# Altium footprint library box1.PcbLib: 12 footprints
Each footprint in its own frame and in the unit in brackets; x right, y up, seen from the top. Pads: shape width x height; smd on the part's side, far side on the other; paste and mask are expansions set on the pad; w line width, h text height; cw(c..) or ccw(c..) is an arc to the next point about the centre after c.
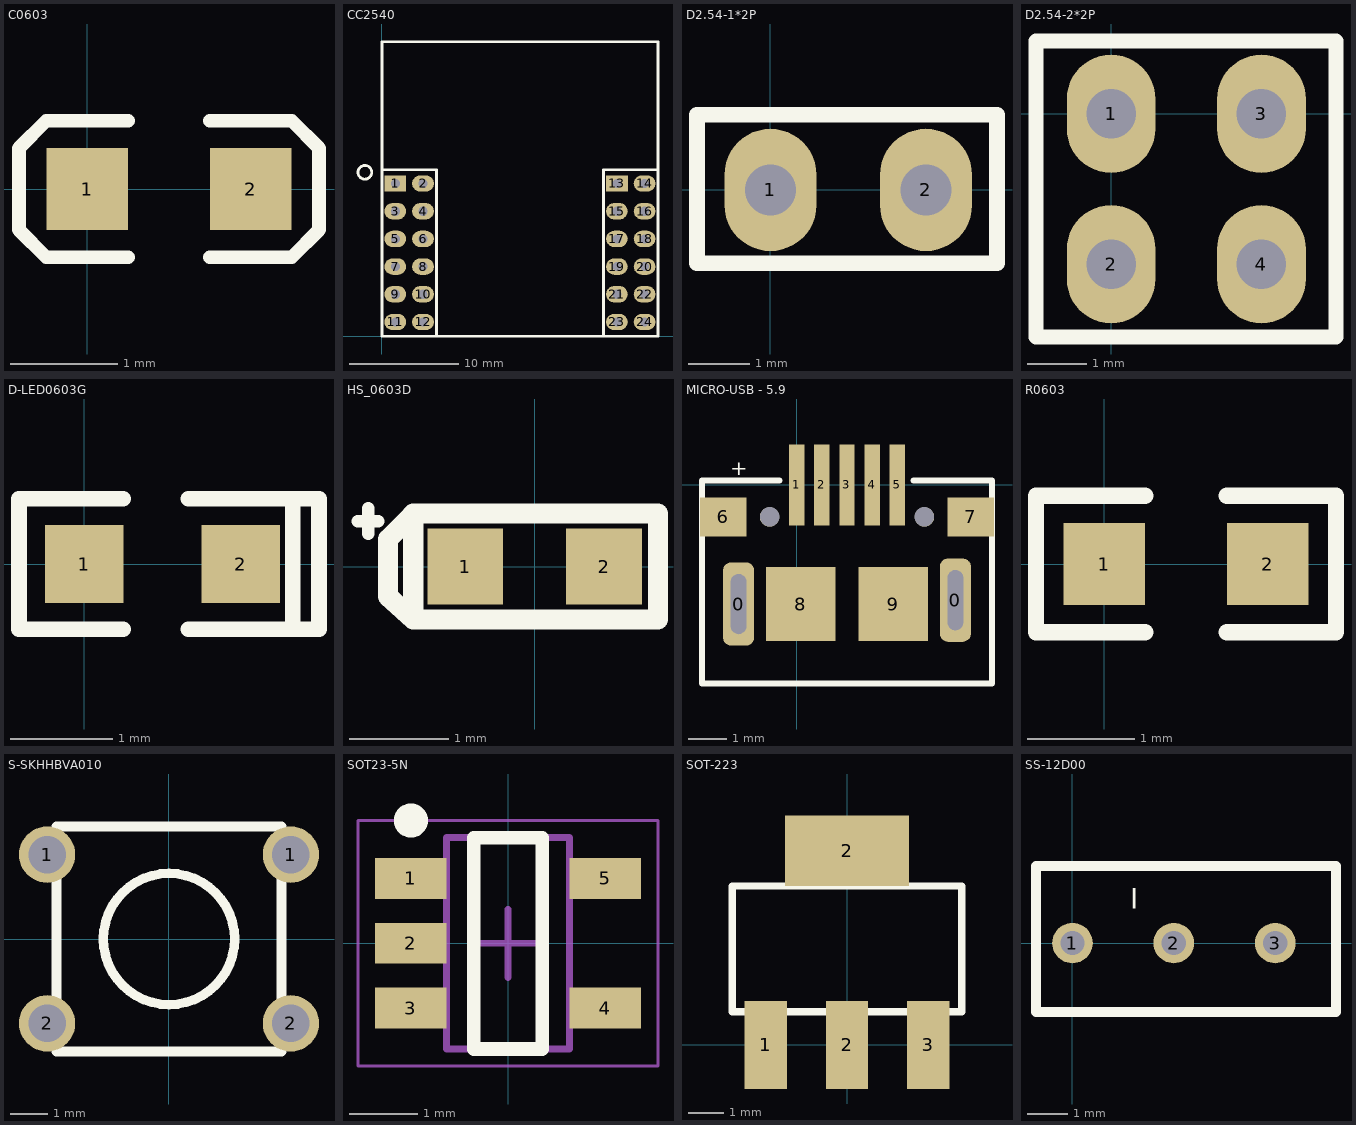
[diagram p0: the footprints below, top view; thin cyan lines are the x and y axes]

## C0603 [mil]
height 12
pads (2):
  rect 30x30 smd: 1(0,0) 2(60,0)
Top Overlay:
  lines w5: 15,-25 -15,-25 -25,-15 -25,15 -15,25 15,25 ; 45,-25 75,-25 85,-15 85,15 75,25 45,25
3D body "C0603.STEP": height 11.89, standoff 0, extent -1.5,-15.5 61.5,16

## CC2540 [mm]
pads (24):
  rect 2x1.5 hole 0.838: 1(1.23,14) 13(21.55,14)
  oval 2x1.5 hole 0.838: 2(3.77,14) 3(1.23,11.46) 4(3.77,11.46) 5(1.23,8.92) 6(3.77,8.92) 7(1.23,6.38) 8(3.77,6.38) 9(1.23,3.84) 10(3.77,3.84) 11(1.23,1.3) 12(3.77,1.3) 14(24.09,14) 15(21.55,11.46) 16(24.09,11.46) 17(21.55,8.92) 18(24.09,8.92) 19(21.55,6.38) 20(24.09,6.38) 21(21.55,3.84) 22(24.09,3.84) 23(21.55,1.3) 24(24.09,1.3)
Top Overlay:
  lines w0.254: -0.939,14.978 cw(c-1.565,15.025) -0.937,15.047 ; 25.32,26.986 25.32,0 ; 25.32,26.99 0,26.99 0,0 ; 0,0 0,15.27 5,15.27 5,0 ; 0,0 5,0 ; 5,0 20.32,0 ; 20.32,0 25.32,0 ; 20.32,0 20.32,15.27 25.32,15.27 25.32,0
3D body: height 2.54, standoff 0, extent 0,0 5.08,15.27
3D body: height 10, standoff -4, extent 3.371,5.981 4.169,6.778
3D body: height 10, standoff -4, extent 3.371,8.521 4.169,9.318
3D body: height 10, standoff -4, extent 3.371,11.061 4.169,11.858
3D body: height 10, standoff -4, extent 3.371,13.601 4.169,14.398
3D body: height 10, standoff -4, extent 0.831,5.981 1.629,6.778
3D body: height 10, standoff -4, extent 0.831,8.521 1.629,9.318
3D body: height 10, standoff -4, extent 0.831,11.061 1.629,11.858
3D body: height 10, standoff -4, extent 0.831,13.601 1.629,14.398
3D body: height 10, standoff -4, extent 3.371,3.441 4.169,4.238
3D body: height 10, standoff -4, extent 0.831,3.441 1.629,4.238
3D body: height 10, standoff -4, extent 0.831,0.841 1.629,1.638
3D body: height 10, standoff -4, extent 3.371,0.841 4.169,1.638
3D body: height 10, standoff -4, extent 23.691,0.841 24.489,1.638
3D body: height 10, standoff -4, extent 21.151,0.841 21.949,1.638
3D body: height 10, standoff -4, extent 21.151,3.441 21.949,4.238
3D body: height 10, standoff -4, extent 23.691,3.441 24.489,4.238
3D body: height 10, standoff -4, extent 21.151,13.601 21.949,14.398
3D body: height 10, standoff -4, extent 21.151,11.061 21.949,11.858
3D body: height 10, standoff -4, extent 21.151,8.521 21.949,9.318
3D body: height 10, standoff -4, extent 21.151,5.981 21.949,6.778
3D body: height 10, standoff -4, extent 23.691,13.601 24.489,14.398
3D body: height 10, standoff -4, extent 23.691,11.061 24.489,11.858
3D body: height 10, standoff -4, extent 23.691,8.521 24.489,9.318
3D body: height 10, standoff -4, extent 23.691,5.981 24.489,6.778
3D body: height 2.54, standoff 0, extent 20.32,0 25.4,15.27

## D2.54-1*2P [mm]
pads (2):
  oval 1.5x2 hole 0.838: 1(0,0) 2(2.54,0)
Top Overlay:
  lines w0.254: -1.2,-1.2 3.7,-1.2 3.7,-0.742 3.7,0.573 3.7,1.23 -1.2,1.23 -1.2,-1.2
3D body: height 10, standoff -4, extent -0.398,-0.399 0.399,0.399
3D body: height 10, standoff -4, extent 2.142,-0.399 2.939,0.399
3D body: height 2.54, standoff 0, extent -1.1,-1.3 3.6,1.24

## D2.54-2*2P [mm] "DUAL_ROW_Pin_R2.54-5P"
pads (4):
  oval 1.5x2 hole 0.838: 1(0,0) 2(0,-2.54) 3(2.54,0) 4(2.54,-2.54)
Top Overlay:
  lines w0.254: -1.27,-3.77 3.8,-3.77 3.8,1.23 -1.27,1.23 -1.27,-3.77
3D body: height 10, standoff -4, extent -0.398,-0.399 0.399,0.399
3D body: height 10, standoff -4, extent 2.142,-0.399 2.939,0.399
3D body: height 10, standoff -4, extent -0.398,-2.939 0.399,-2.141
3D body: height 10, standoff -4, extent 2.142,-2.939 2.939,-2.141
3D body: height 2.54, standoff 0, extent -1.27,-3.817 3.8,1.263

## D-LED0603G [mil]
height 39.37
pads (2):
  rect 30x30 smd: 1(0,0) 2(60,0)
Top Overlay:
  lines w6: 15,-25 -25,-25 -25,25 15,25 ; 40,-25 90,-25 90,25 40,25 ; 80,-25 80,25
3D body "LED_0603_GREEN.STEP": height 23.62, standoff 0, extent -1.89,-16.5 61.89,15

## HS_0603D [mil]
height 100
pads (2):
  rect 30x30 smd: 1(-27.5,0) 2(27.5,0)
Top Overlay:
  lines w5: -70,18 -62,18 ; -66,13 -66,23
  lines w8: -49,20 -58.12,10.88 -58.12,-11.87 -48.12,-21 ; -48.12,20 -48.12,-21 ; -48.12,21 48.88,21 48.88,-21 -48.12,-21

## MICRO-USB - 5.9 [mm]
pads (13):
  rrect50% 0.8x2.15 hole 0.4 slot 1.55 at 90 deg: 0(-1.5,-3.075) 0(4.1,-2.975)
  rect 0.4x2.1 smd: 1(0,0) 2(0.65,0) 3(1.3,0) 4(1.95,0) 5(2.6,0)
  rect 1.2x1 smd: 6(-1.9,-0.825) 7(4.5,-0.825)
  rect 1.8x1.9 smd: 8(0.106,-3.075) 9(2.493,-3.075)
  round 0.5 hole 0.5 unplated: ""(-0.7,-0.825) ""(3.3,-0.825)
Top Overlay:
  lines w0.152: -0.443,0.118 -2.45,0.118 -2.45,-5.132 5.05,-5.132 5.05,0.118 3.019,0.118
  text "+" at -1.713,0.252 h0.4

## R0603 [mil]
height 12
pads (2):
  rect 30x30 smd: 1(0,0) 2(60,0)
Top Overlay:
  lines w6: 15,-25 -25,-25 -25,25 15,25 ; 45,-25 85,-25 85,25 45,25
3D body "R0603.STEP": height 17.72, standoff 0, extent -0.5,-16 62.5,15.5

## S-SKHHBVA010 [mm]
pads (4):
  round 1.5 hole 1: 1(-3.25,2.25) 1(3.25,2.25) 2(-3.25,-2.25) 2(3.25,-2.25)
Top Overlay:
  circle w0.254: c0,0 r1.75
  lines w0.254: -3,-3 -3,3 3,3 3,-3 -3,-3
3D body "SKHHBV.STEP": height 7, standoff -3.5, extent -3.95,-3.099 3.95,3.101

## SOT23-5N [mm] "SOT23, 5-Leads, Body 2.90x2.70mm, Pitch 0.95mm, IPC Medium Density"
height 1.45
pads (5):
  rect 1.05x0.6 smd: 1(-1.425,0.95) 2(-1.425,0) 3(-1.425,-0.95) 4(1.425,-0.95) 5(1.425,0.95)
Top Overlay:
  circle w0.25: c-1.425,1.8 r0.125
  lines w0.2: -0.5,-1.55 -0.5,1.55 0.5,1.55 0.5,-1.55 -0.5,-1.55
Mechanical 13:
  lines w0.1: -0.9,-1.55 0.9,-1.55 0.9,1.55 -0.9,1.55 -0.9,-1.55
Mechanical 15:
  lines w0.05: -2.2,-1.8 2.2,-1.8 2.2,1.8 -2.2,1.8 -2.2,-1.8
  lines w0.1: -0.5,0 0.5,0 ; 0,-0.5 0,0.5
3D body: height 1.45, standoff 0.15, extent -0.9,-1.55 0.9,1.55

## SOT-223 [mm]
pads (4):
  rect 1.2x2.5 smd: 1(-2.3,0) 2(0,0) 3(2.3,0)
  rect 3.5x2 smd: 2(0,5.5)
Top Overlay:
  lines w0.203: -3.25,0.94 -3.25,4.5 3.25,4.5 3.25,0.94 -3.25,0.94

## SS-12D00 [mm] "SS-12D00(1P2T) 立式 柄高5MM"
pads (3):
  round 1 hole 0.6: 1(0,0) 2(2.5,0) 3(5,0)
Top Overlay:
  lines w0.254: -0.9,-1.7 6.5,-1.7 6.5,1.9 -0.9,1.9 -0.9,-1.7
  text "I" at 1.425,0.85 h0.5